# Altium schematic symbol library SnapEDAsch.SchLib: 1 symbol
Pins are listed as number, name and electrical type; pins without a type are passive.

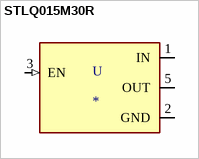
[diagram p0: symbol STLQ015M30R]

## STLQ015M30R
designator U
Linear Voltage Regulator IC 1 Output 150mA SOT-23-5; MP: STLQ015M30R; MF: STMicroelectronics; SnapEDA_Link: https://www.snapeda.com/parts/STLQ015M30R/STMicroelectronics/view-part/577119/?ref=snap; Availability: Unavailable; DigiKey-Purchase-URL: https://snapeda.com/shop?store=DigiKey&id=577119; Value: *; Price: None; Package: SOT-23 STMicroelectronics
footprint SOT23P95_280X145-5N
pins: 1 IN (power), 2 GND (power), 3 EN (in), 5 OUT (power)